# Altium schematic symbol library Schlib1.SchLib: 4 symbols
Pins are listed as number, name and electrical type; pins without a type are passive.

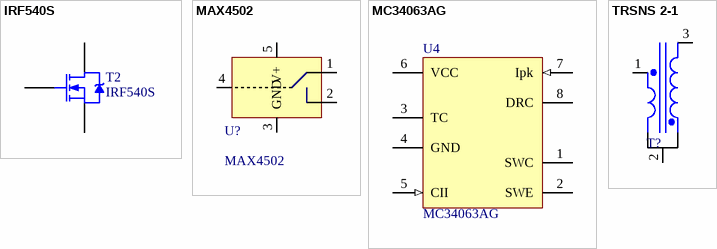
[diagram p0: symbols IRF540S to TRSNS 2-1]

## IRF540S
designator T2
N-Channel MOSFET
footprint D2PAK-2
pins: 1 G, 3 S, 4 D

## MAX4502
designator U?
footprint SOT-23-5
pins: 1 COM, 2 NC, 3 GND, 4 IN, 5 V+

## MC34063AG
designator U4
footprint SOP-8
pins: 1 SWC "Switch Collector", 2 SWE "Switch Emitter", 3 TC "Timing Capacitor", 4 GND (power), 5 CII (in) "Comparator Inverting Input", 6 VCC (power), 7 Ipk (in) "IPK Sense", 8 DRC "Driver Collector"

## TRSNS 2-1
designator T?, comment Transformer 2-1  (value not drawn)
Three-winding Transformer
footprint trans-26
pins: 1 S, 2 F, 3 S